# Altium schematic symbol library CON_MICROSD_9P_4G.SchLib: 1 symbol
Pins are listed as number, name and electrical type; pins without a type are passive.

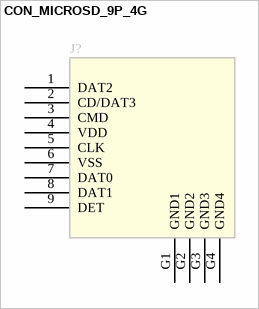
[diagram p0: symbol CON_MICROSD_9P_4G]

## CON_MICROSD_9P_4G
designator J?
CON 9 MICRO SD CARD SKT SMT 1.1MM SP AU 57H
pins: 1 DAT2, 2 CD/DAT3, 3 CMD, 4 VDD (power), 5 CLK, 6 VSS (power), 7 DAT0, 8 DAT1, 9 DET, G1 GND1 (power), G2 GND2 (power), G3 GND3 (power), G4 GND4 (power)